# Altium footprint library DRB_TI.PcbLib: 1 footprints
Each footprint in its own frame and in the unit in brackets; x right, y up, seen from the top. Pads: shape width x height; smd on the part's side, far side on the other; paste and mask are expansions set on the pad; w line width, h text height; cw(c..) or ccw(c..) is an arc to the next point about the centre after c.
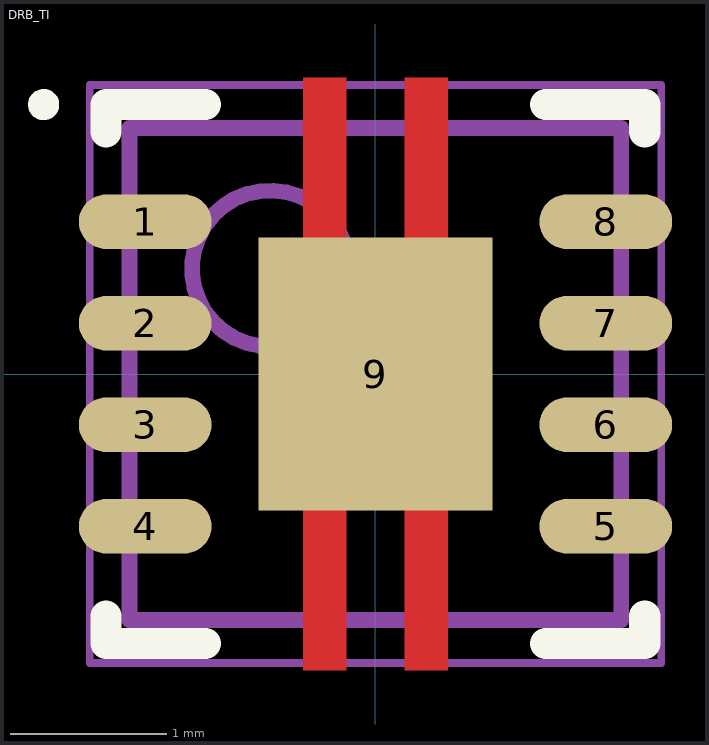
[diagram p0: the footprint, top view; thin cyan lines are the x and y axes]

## DRB_TI [mm] "PSON, 8-Leads, Body 3.00x3.00mm, Pitch 0.65mm, Thermal Pad 1.75x1.50mm, IPC Medium Density"
height 1
pads (9):
  oval 0.85x0.35 smd mask+0.07: 1(-1.475,0.975) 2(-1.475,0.325) 3(-1.475,-0.325) 4(-1.475,-0.975) 5(1.475,-0.975) 6(1.475,-0.325) 7(1.475,0.325) 8(1.475,0.975)
  rect 1.5x1.75 smd paste-0.75 mask+0.07: 9(0,0)
Top Layer:
  region: -0.185,-0.762 -0.465,-0.762 -0.465,-1.9 -0.185,-1.9
  region: 0.465,-0.762 0.185,-0.762 0.185,-1.9 0.465,-1.9
  rectangle: -0.465,0.762 -0.185,1.9
  rectangle: 0.185,0.762 0.465,1.9
Top Overlay:
  circle w0.1: c-2.125,1.725 r0.05
  lines w0.2: -1.725,-1.55 -1.725,-1.725 -1.09,-1.725 ; -1.725,1.55 -1.725,1.725 -1.09,1.725 ; 1.09,-1.725 1.725,-1.725 1.725,-1.55 ; 1.09,1.725 1.725,1.725 1.725,1.55
Top Paste:
  rectangle: -0.65,-0.775 0.65,0.775
  region: 0.44,-0.975 0.21,-0.975 0.21,-1.875 0.44,-1.875
  region: -0.21,-0.975 -0.44,-0.975 -0.44,-1.875 -0.21,-1.875
  rectangle: 0.21,0.975 0.44,1.875
  rectangle: -0.44,0.975 -0.21,1.875
Top Solder:
  rectangle: -0.52,0.762 -0.127,1.98
  rectangle: 0.12,0.762 0.53,1.98
  region: -0.12,-0.762 -0.53,-0.762 -0.53,-1.98 -0.12,-1.98
  region: 0.52,-0.762 0.127,-0.762 0.127,-1.98 0.52,-1.98
Mechanical 13:
  circle w0.1: c-0.675,0.675 r0.5
  lines w0.1: -1.575,-1.575 1.575,-1.575 1.575,1.575 -1.575,1.575 -1.575,-1.575
Mechanical 15:
  lines w0.05: -1.83,-1.85 1.83,-1.85 1.83,1.85 -1.83,1.85 -1.83,-1.85
  lines w0.1: -0.5,0 0.5,0 ; 0,-0.5 0,0.5
3D body "DRB_TI.step": height 1, standoff 0, extent -1.576,-1.575 1.576,1.575